# Altium integrated library Analog Devices Data Converters Analog-to-Digital Converters.IntLib: 2404 symbols (part 17 of 346)
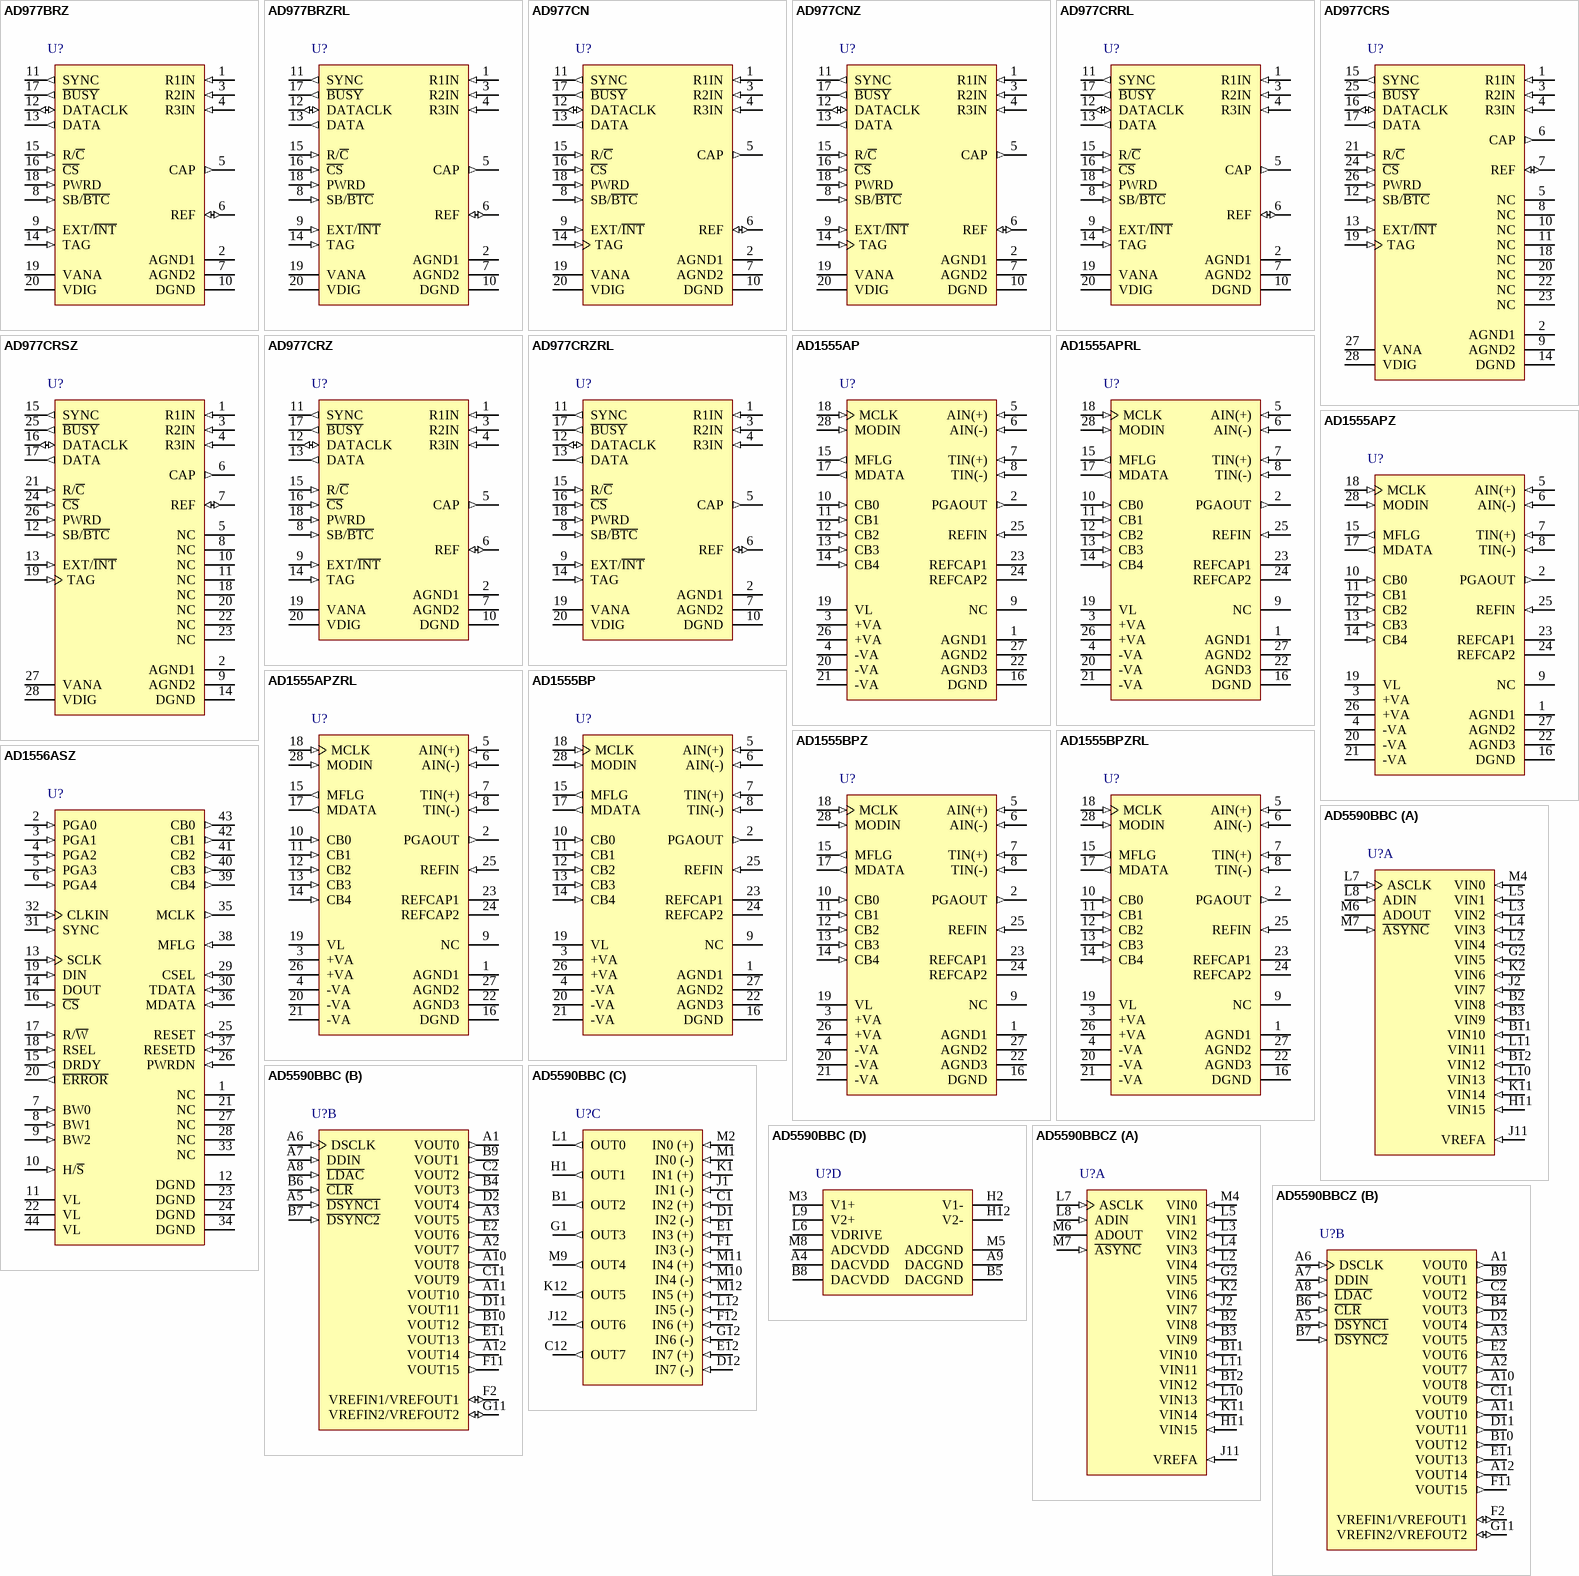
[diagram p164: symbols AD977BRZ to AD5590BBCZ]

## AD977CN
designator U?
Single 16-Bit BiCMOS Analog-to-Digital Converter with Serial Interface, 100KSPS, -40 to +85 degC, N-20, Tube; Generic Part Number: AD977; Manufacturer: Analog Devices; PartNumber: AD977CN; Resolution (Bits): 16; Channels: 1; Throughput Rate (SPS): 100K; Interface: Ser; DatasheetVersion: Rev.D; PackageVersion: 070706-A; PackageReference: N-20; PackageDescription: 20-Lead Plastic Dual In-Line Package [PDIP] Narrow Body; Supplier 1: Digi-Key; Supplier Part Number 1: AD977CN-ND; RoHS: N; Packing: Tube; Mounting Technology: Through-hole; Code_JEDEC: MS-001; ComponentLink1Description: Manufacturer URL; ComponentLink1URL: http://www.analog.com/en/index.html; ComponentLink2Description: Datasheet; ComponentLink2URL: http://www.analog.com/static/imported-files/data_sheets/AD977_977A.pdf; ComponentLink3Description: Package Specification; ComponentLink3URL: http://www.analog.com/static/imported-files/packages/50601349676519N_20.pdf; ComponentLink4Description: Product URL; ComponentLink4URL: http://www.analog.com/en/analog-to-digital-converters/ad-converters/ad977/products/product.html
footprint N-20 (DIP, 20-Leads, Row Spacing 7.62mm, Pitch 2.54mm, Body 25.9x6.6mm)
pins: 1 R1IN (in) "Analog Input. Refer to Table I, Table II for input range configuration.", 2 AGND1 (power) "Analog Ground. Used as the ground reference point for the REF pin.", 3 R2IN (in) "Analog Input. Refer to Table I, Table II for input range configuration.", 4 R3IN (in) "Analog Input. Refer to Table I, Table II for input range configuration.", 5 CAP (out) "Reference buffer output. Connect a 2.2 uF tantalum capacitor between CAP and Analog Ground.", 6 REF (io) "Reference Input/Output. The internal 2.5 V reference is available at this pin.Alternatively an external reference can be used to override the internal reference. In either case, connect a 2.2 uF tantalum capacitor between (See Datasheet)", 7 AGND2 (power) "Analog Ground.", 8 SB/~{BTC} (in) "This digital input is used to select the data format of a conversion result. With SB/B\T\C\ tied LOW, conversion data will be output in Binary Two’s Complement format. With SB/B\T\C\ connected to a logic HIGH, data is output (See Datasheet)", 9 EXT/~{INT} (in) "Digital select input for choosing the internal or an external data clock. With EXT/I\N\T\ tied LOW, after initiating a conversion, 16 DATACLK pulses transmit the previous conversion result as shown in Figure 3. With (See Datasheet)", 10 DGND (power) "Digital Ground.", 11 SYNC (out) "Digital output frame synchronization for use with an external data clock(EXT/INT = Logic HIGH). When a read sequence is initiated, a pulse one DATACLK period wide is output synchronous to the external data clock.", 12 DATACLK (io) "Serial data clock input or output, dependent upon the logic state of the EXT/I\N\T\ pin. When using the internal data clock (EXT/I\N\T\ = Logic LOW), a conversion start sequence will initiate transmission of 16 DATACLK (See Datasheet)", 13 DATA (out) "The serial data output is synchronized to DATACLK. Conversion results are stored in an on-chip register. The AD977 provides the conversion result, MSB first, from its internal shift register. The DATA format is determined by (See Datasheet)", 14 TAG (in) "This digital input can be used with an external data clock, (EXT/I\N\T\ = Logic HIGH) to daisy chain the conversion results from two or more AD977s onto a single DATA line. The digital data level on TAG is output on DATA (See Datasheet)", 15 R/~{C} (in) "Read/Convert Input. Is used to control the conversion and read modes of the AD977. With C\S\ LOW; a falling edge on R/C\ holds the analog input signal internally and starts a conversion, a rising edge enables the (See Datasheet)", 16 ~{CS} (in) "Chip Select Input. With R/C\ LOW, a falling edge on C\S\ will initiate a conversion.With R/C\ HIGH, a falling edge on C\S\ will enable the serial data output sequence.", 17 ~{BUSY} (out) "Busy Output. Goes LOW when a conversion is started, and remains LOW until the conversion is completed and the data is latched into the on-chip shift register.", 18 PWRD (in) "Power-Down Input. When set to a logic HIGH power consumption is reduced and conversions are inhibited. The conversion result from the previous conversion is stored in the onboard shift register.", 19 VANA (power) "Analog Power Supply. Nominally 5 V.", 20 VDIG (power) "Digital Power Supply. Nominally 5 V."

## AD977CNZ
designator U?
Single 16-Bit BiCMOS Analog-to-Digital Converter with Serial Interface, 100KSPS, -40 to +85 degC, N-20, Pb-Free, Tube; Generic Part Number: AD977; Manufacturer: Analog Devices; PartNumber: AD977CNZ; Resolution (Bits): 16; Channels: 1; Throughput Rate (SPS): 100K; Interface: Ser; DatasheetVersion: Rev.D; PackageVersion: 070706-A; PackageReference: N-20; PackageDescription: 20-Lead Plastic Dual In-Line Package [PDIP] Narrow Body; Supplier 1: Digi-Key; Supplier Part Number 1: AD977CNZ-ND; Supplier 2: Newark; Supplier Part Number 2: 15P1070; Supplier 3: Mouser; Supplier Part Number 3: 584-AD977CNZ; RoHS: Y; Packing: Tube; Mounting Technology: Through-hole; Code_JEDEC: MS-001; ComponentLink1Description: Manufacturer URL; ComponentLink1URL: http://www.analog.com/en/index.html; ComponentLink2Description: Datasheet; ComponentLink2URL: http://www.analog.com/static/imported-files/data_sheets/AD977_977A.pdf; ComponentLink3Description: Package Specification; ComponentLink3URL: http://www.analog.com/static/imported-files/packages/50601349676519N_20.pdf; ComponentLink4Description: Product URL; ComponentLink4URL: http://www.analog.com/en/analog-to-digital-converters/ad-converters/ad977/products/product.html
footprint N-20 (DIP, 20-Leads, Row Spacing 7.62mm, Pitch 2.54mm, Body 25.9x6.6mm)
pins: 1 R1IN (in) "Analog Input. Refer to Table I, Table II for input range configuration.", 2 AGND1 (power) "Analog Ground. Used as the ground reference point for the REF pin.", 3 R2IN (in) "Analog Input. Refer to Table I, Table II for input range configuration.", 4 R3IN (in) "Analog Input. Refer to Table I, Table II for input range configuration.", 5 CAP (out) "Reference buffer output. Connect a 2.2 uF tantalum capacitor between CAP and Analog Ground.", 6 REF (io) "Reference Input/Output. The internal 2.5 V reference is available at this pin.Alternatively an external reference can be used to override the internal reference. In either case, connect a 2.2 uF tantalum capacitor between (See Datasheet)", 7 AGND2 (power) "Analog Ground.", 8 SB/~{BTC} (in) "This digital input is used to select the data format of a conversion result. With SB/B\T\C\ tied LOW, conversion data will be output in Binary Two’s Complement format. With SB/B\T\C\ connected to a logic HIGH, data is output (See Datasheet)", 9 EXT/~{INT} (in) "Digital select input for choosing the internal or an external data clock. With EXT/I\N\T\ tied LOW, after initiating a conversion, 16 DATACLK pulses transmit the previous conversion result as shown in Figure 3. With (See Datasheet)", 10 DGND (power) "Digital Ground.", 11 SYNC (out) "Digital output frame synchronization for use with an external data clock(EXT/INT = Logic HIGH). When a read sequence is initiated, a pulse one DATACLK period wide is output synchronous to the external data clock.", 12 DATACLK (io) "Serial data clock input or output, dependent upon the logic state of the EXT/I\N\T\ pin. When using the internal data clock (EXT/I\N\T\ = Logic LOW), a conversion start sequence will initiate transmission of 16 DATACLK (See Datasheet)", 13 DATA (out) "The serial data output is synchronized to DATACLK. Conversion results are stored in an on-chip register. The AD977 provides the conversion result, MSB first, from its internal shift register. The DATA format is determined by (See Datasheet)", 14 TAG (in) "This digital input can be used with an external data clock, (EXT/I\N\T\ = Logic HIGH) to daisy chain the conversion results from two or more AD977s onto a single DATA line. The digital data level on TAG is output on DATA (See Datasheet)", 15 R/~{C} (in) "Read/Convert Input. Is used to control the conversion and read modes of the AD977. With C\S\ LOW; a falling edge on R/C\ holds the analog input signal internally and starts a conversion, a rising edge enables the (See Datasheet)", 16 ~{CS} (in) "Chip Select Input. With R/C\ LOW, a falling edge on C\S\ will initiate a conversion.With R/C\ HIGH, a falling edge on C\S\ will enable the serial data output sequence.", 17 ~{BUSY} (out) "Busy Output. Goes LOW when a conversion is started, and remains LOW until the conversion is completed and the data is latched into the on-chip shift register.", 18 PWRD (in) "Power-Down Input. When set to a logic HIGH power consumption is reduced and conversions are inhibited. The conversion result from the previous conversion is stored in the onboard shift register.", 19 VANA (power) "Analog Power Supply. Nominally 5 V.", 20 VDIG (power) "Digital Power Supply. Nominally 5 V."

## AD977CRRL
designator U?
Single 16-Bit BiCMOS Analog-to-Digital Converter with Serial Interface, 100KSPS, -40 to +85 degC, RW-20, Reel; Generic Part Number: AD977; Manufacturer: Analog Devices; PartNumber: AD977CRRL; Resolution (Bits): 16; Channels: 1; Throughput Rate (SPS): 100K; Interface: Ser; DatasheetVersion: Rev.D; PackageVersion: 060706-A; PackageReference: RW-20; PackageDescription: 20-Lead Standard Small Outline Package [SOIC_W] Wide Body; Supplier 1: Digi-Key; Supplier Part Number 1: AD977CRRLTR-ND; Supplier 2: Digi-Key; Supplier Part Number 2: AD977CRRLCT-ND; Supplier 3: Digi-Key; Supplier Part Number 3: AD977CRRLDKR-ND; Supplier 4: Mouser; Supplier Part Number 4: 584-AD977CRR; RoHS: N; Packing: Reel; Mounting Technology: Surface Mount; Code_JEDEC: MS-013-AC; ComponentLink1Description: Manufacturer URL; ComponentLink1URL: http://www.analog.com/en/index.html; ComponentLink2Description: Datasheet; ComponentLink2URL: http://www.analog.com/static/imported-files/data_sheets/AD977_977A.pdf; ComponentLink3Description: Package Specification; ComponentLink3URL: http://www.analog.com/static/imported-files/packages/233848RW_20.pdf; ComponentLink4Description: Product URL; ComponentLink4URL: http://www.analog.com/en/analog-to-digital-converters/ad-converters/ad977/products/product.html
footprint RW-20_N (SOIC, 20-Leads, Body 12.8x7.5mm, Pitch 1.27mm, IPC Medium Density)
footprint RW-20_L (SOIC, 20-Leads, Body 12.8x7.5mm, Pitch 1.27mm, IPC High Density)
footprint RW-20_M (SOIC, 20-Leads, Body 12.8x7.5mm, Pitch 1.27mm, IPC Low Density)
pins: 1 R1IN (in) "Analog Input. Refer to Table I, Table II for input range configuration.", 2 AGND1 (power) "Analog Ground. Used as the ground reference point for the REF pin.", 3 R2IN (in) "Analog Input. Refer to Table I, Table II for input range configuration.", 4 R3IN (in) "Analog Input. Refer to Table I, Table II for input range configuration.", 5 CAP (out) "Reference buffer output. Connect a 2.2 µF tantalum capacitor between CAP and Analog Ground.", 6 REF (io) "Reference Input/Output. The internal 2.5 V reference is available at this pin. Alternatively an external reference can be used to override the internal reference. In either case, connect a 2.2 µF tantalum capacitor between (See Datasheet)", 7 AGND2 (power) "Analog Ground.", 8 SB/~{BTC} (in) "This digital input is used to select the data format of a conversion result. With SB/B\T\C\ tied LOW, conversion data will be output in Binary Two’s Complement format. With SB/B\T\C\ connected to a logic HIGH, data is output (See Datasheet)", 9 EXT/~{INT} (in) "Digital select input for choosing the internal or an external data clock. With EXT/I\N\T\ tied LOW, after initiating a conversion, 16 DATACLK pulses transmit the previous conversion result as shown in Figure 3. With (See Datasheet)", 10 DGND (power) "Digital Ground.", 11 SYNC (out) "Digital output frame synchronization for use with an external data clock (EXT/I\N\T\ = Logic HIGH). When a read sequence is initiated, a pulse one DATACLK period wide is output synchronous to the external data clock.", 12 DATACLK (io) "Serial data clock input or output, dependent upon the logic state of the EXT/I\N\T\ pin. When using the internal data clock (EXT/I\N\T\ = Logic LOW), a conversion start sequence will initiate transmission of 16 DATACLK (See Datasheet)", 13 DATA (out) "The serial data output is synchronized to DATACLK. Conversion results are stored in an on-chip register. The AD977 provides the conversion result, MSB first, from its internal shift register. The DATA format is determined by (See Datasheet)", 14 TAG (in) "This digital input can be used with an external data clock, (EXT/I\N\T\ = Logic HIGH) to daisy chain the conversion results from two or more AD977s onto a single DATA line. The digital data level on TAG is output on DATA (See Datasheet)", 15 R/~{C} (in) "Read/Convert Input. Is used to control the conversion and read modes of the AD977. With C\S\ LOW; a falling edge on R/C\ holds the analog input signal internally and starts a conversion, a rising edge enables the (See Datasheet)", 16 ~{CS} (in) "Chip Select Input. With R/C\ LOW, a falling edge on C\S\ will initiate a conversion. With R/C\ HIGH, a falling edge on C\S\ will enable the serial data output sequence.", 17 ~{BUSY} (out) "Busy Output. Goes LOW when a conversion is started, and remains LOW until the conversion is completed and the data is latched into the on-chip shift register.", 18 PWRD (in) "Power-Down Input. When set to a logic HIGH power consumption is reduced and conversions are inhibited. The conversion result from the previous conversion is stored in the onboard shift register.", 19 VANA (power) "Analog Power Supply. Nominally 5 V.", 20 VDIG (power) "Digital Power Supply. Nominally 5 V."

## AD977CRS
designator U?
Single 16-Bit BiCMOS Analog-to-Digital Converter with Serial Interface, 100KSPS, -40 to +85 degC, RS-28, Tube; Generic Part Number: AD977; Manufacturer: Analog Devices; PartNumber: AD977CRS; Resolution (Bits): 16; Channels: 1; Throughput Rate (SPS): 100K; Interface: Ser; DatasheetVersion: Rev.D; PackageVersion: 060106-A; PackageReference: RS-28; PackageDescription: 28-Lead Shrink Small Outline Package [SSOP]; Supplier 1: Digi-Key; Supplier Part Number 1: AD977CRS-ND; RoHS: N; Packing: Tube; Mounting Technology: Surface Mount; Code_JEDEC: MO-150-AH; ComponentLink1Description: Manufacturer URL; ComponentLink1URL: http://www.analog.com/en/index.html; ComponentLink2Description: Datasheet; ComponentLink2URL: http://www.analog.com/static/imported-files/data_sheets/AD977_977A.pdf; ComponentLink3Description: Package Specification; ComponentLink3URL: http://www.analog.com/static/imported-files/packages/32122249223724RS_28.pdf; ComponentLink4Description: Product URL; ComponentLink4URL: http://www.analog.com/en/analog-to-digital-converters/ad-converters/ad977/products/product.html
footprint RS-28_N (SOP, 28-Leads, Body 10.2x5.3mm, Pitch 0.65mm, IPC Medium Density)
footprint RS-28_L (SOP, 28-Leads, Body 10.2x5.3mm, Pitch 0.65mm, IPC High Density)
footprint RS-28_M (SOP, 28-Leads, Body 10.2x5.3mm, Pitch 0.65mm, IPC Low Density)
pins: 1 R1IN (in) "Analog Input. Refer to Table I, Table II for input range configuration.", 2 AGND1 (power) "Analog Ground. Used as the ground reference point for the REF pin.", 3 R2IN (in) "Analog Input. Refer to Table I, Table II for input range configuration.", 4 R3IN (in) "Analog Input. Refer to Table I, Table II for input range configuration.", 5 NC "No Connection", 6 CAP (out) "Reference buffer output. Connect a 2.2 uF tantalum capacitor between CAP and Analog Ground.", 7 REF (io) "Reference Input/Output. The internal 2.5 V reference is available at this pin. Alternatively an external reference can be used to override the internal reference. In either case, connect a 2.2 uF tantalum capacitor between (See Datasheet)", 8 NC "No Connection", 9 AGND2 (power) "Analog Ground.", 10 NC "No Connection", 11 NC "No Connection", 12 SB/~{BTC} (in) "This digital input is used to select the data format of a conversion result. With SB/B\T\C\ tied LOW, conversion data will be output in Binary Two's Complement format. With SB/B\T\C\ connected to a logic HIGH, data is output (See Datasheet)", 13 EXT/~{INT} (in) "Digital select input for choosing the internal or an external data clock. With EXT/I\N\T\ tied LOW, after initiating a conversion, 16 DATACLK pulses transmit the previous conversion result as shown in Figure 3. With (See Datasheet)", 14 DGND (power) "Digital Ground.", 15 SYNC (out) "Digital output frame synchronization for use with an external data clock (EXT/I\N\T\ = Logic HIGH). When a read sequence is initiated, a pulse one DATACLK period wide is output synchronous to the external data clock.", 16 DATACLK (io) "Serial data clock input or output, dependent upon the logic state of the EXT/I\N\T\ pin. When using the internal data clock (EXT/I\N\T\ = Logic LOW), a conversion start sequence will initiate transmission of 16 DATACLK (See Datasheet)", 17 DATA (out) "The serial data output is synchronized to DATACLK. Conversion results are stored in an on-chip register. The AD977 provides the conversion result, MSB first, from its internal shift register. The DATA format is determined by (See Datasheet)", 18 NC "No Connection", 19 TAG (in) "This digital input can be used with an external data clock, (EXT/I\N\T\ = Logic HIGH) to daisy chain the conversion results from two or more AD977s onto a single DATA line. The digital data level on TAG is output on DATA (See Datasheet)", 20 NC "No Connection", 21 R/~{C} (in) "Read/Convert Input. Is used to control the conversion and read modes of the AD977. With C\S\ LOW; a falling edge on R/C\ holds the analog input signal internally and starts a conversion, a rising edge enables the (See Datasheet)", 22 NC "No Connection", 23 NC "No Connection", 24 ~{CS} (in) "Chip Select Input. With R/C\ LOW, a falling edge on C\S\ will initiate a conversion. With R/C\ HIGH, a falling edge on C\S\ will enable the serial data output sequence.", 25 ~{BUSY} (out) "Busy Output. Goes LOW when a conversion is started, and remains LOW until the conversion is completed and the data is latched into the on-chip shift register.", 26 PWRD (in) "Power-Down Input. When set to a logic HIGH power consumption is reduced and conversions are inhibited. The conversion result from the previous conversion is stored in the onboard shift register.", 27 VANA (power) "Analog Power Supply. Nominally 5 V.", 28 VDIG (power) "Digital Power Supply. Nominally 5 V."

## AD977CRSZ
designator U?
Single 16-Bit BiCMOS Analog-to-Digital Converter with Serial Interface, 100KSPS, -40 to +85 degC, RS-28, Pb-Free, Tube; Generic Part Number: AD977; Manufacturer: Analog Devices; PartNumber: AD977CRSZ; Resolution (Bits): 16; Channels: 1; Throughput Rate (SPS): 100K; Interface: Ser; DatasheetVersion: Rev.D; PackageVersion: 060106-A; PackageReference: RS-28; PackageDescription: 28-Lead Shrink Small Outline Package [SSOP]; Supplier 1: Digi-Key; Supplier Part Number 1: AD977CRSZ-ND; Supplier 2: Newark; Supplier Part Number 2: 59K7426; Supplier 3: Mouser; Supplier Part Number 3: 584-AD977CRSZ; RoHS: Y; Packing: Tube; Mounting Technology: Surface Mount; Code_JEDEC: MO-150-AH; ComponentLink1Description: Manufacturer URL; ComponentLink1URL: http://www.analog.com/en/index.html; ComponentLink2Description: Datasheet; ComponentLink2URL: http://www.analog.com/static/imported-files/data_sheets/AD977_977A.pdf; ComponentLink3Description: Package Specification; ComponentLink3URL: http://www.analog.com/static/imported-files/packages/32122249223724RS_28.pdf; ComponentLink4Description: Product URL; ComponentLink4URL: http://www.analog.com/en/analog-to-digital-converters/ad-converters/ad977/products/product.html
footprint RS-28_N (SOP, 28-Leads, Body 10.2x5.3mm, Pitch 0.65mm, IPC Medium Density)
footprint RS-28_L (SOP, 28-Leads, Body 10.2x5.3mm, Pitch 0.65mm, IPC High Density)
footprint RS-28_M (SOP, 28-Leads, Body 10.2x5.3mm, Pitch 0.65mm, IPC Low Density)
pins: 1 R1IN (in) "Analog Input. Refer to Table I, Table II for input range configuration.", 2 AGND1 (power) "Analog Ground. Used as the ground reference point for the REF pin.", 3 R2IN (in) "Analog Input. Refer to Table I, Table II for input range configuration.", 4 R3IN (in) "Analog Input. Refer to Table I, Table II for input range configuration.", 5 NC "No Connection", 6 CAP (out) "Reference buffer output. Connect a 2.2 uF tantalum capacitor between CAP and Analog Ground.", 7 REF (io) "Reference Input/Output. The internal 2.5 V reference is available at this pin. Alternatively an external reference can be used to override the internal reference. In either case, connect a 2.2 uF tantalum capacitor between (See Datasheet)", 8 NC "No Connection", 9 AGND2 (power) "Analog Ground.", 10 NC "No Connection", 11 NC "No Connection", 12 SB/~{BTC} (in) "This digital input is used to select the data format of a conversion result. With SB/B\T\C\ tied LOW, conversion data will be output in Binary Two's Complement format. With SB/B\T\C\ connected to a logic HIGH, data is output (See Datasheet)", 13 EXT/~{INT} (in) "Digital select input for choosing the internal or an external data clock. With EXT/I\N\T\ tied LOW, after initiating a conversion, 16 DATACLK pulses transmit the previous conversion result as shown in Figure 3. With (See Datasheet)", 14 DGND (power) "Digital Ground.", 15 SYNC (out) "Digital output frame synchronization for use with an external data clock (EXT/I\N\T\ = Logic HIGH). When a read sequence is initiated, a pulse one DATACLK period wide is output synchronous to the external data clock.", 16 DATACLK (io) "Serial data clock input or output, dependent upon the logic state of the EXT/I\N\T\ pin. When using the internal data clock (EXT/I\N\T\ = Logic LOW), a conversion start sequence will initiate transmission of 16 DATACLK (See Datasheet)", 17 DATA (out) "The serial data output is synchronized to DATACLK. Conversion results are stored in an on-chip register. The AD977 provides the conversion result, MSB first, from its internal shift register. The DATA format is determined by (See Datasheet)", 18 NC "No Connection", 19 TAG (in) "This digital input can be used with an external data clock, (EXT/I\N\T\ = Logic HIGH) to daisy chain the conversion results from two or more AD977s onto a single DATA line. The digital data level on TAG is output on DATA (See Datasheet)", 20 NC "No Connection", 21 R/~{C} (in) "Read/Convert Input. Is used to control the conversion and read modes of the AD977. With C\S\ LOW; a falling edge on R/C\ holds the analog input signal internally and starts a conversion, a rising edge enables the (See Datasheet)", 22 NC "No Connection", 23 NC "No Connection", 24 ~{CS} (in) "Chip Select Input. With R/C\ LOW, a falling edge on C\S\ will initiate a conversion. With R/C\ HIGH, a falling edge on C\S\ will enable the serial data output sequence.", 25 ~{BUSY} (out) "Busy Output. Goes LOW when a conversion is started, and remains LOW until the conversion is completed and the data is latched into the on-chip shift register.", 26 PWRD (in) "Power-Down Input. When set to a logic HIGH power consumption is reduced and conversions are inhibited. The conversion result from the previous conversion is stored in the onboard shift register.", 27 VANA (power) "Analog Power Supply. Nominally 5 V.", 28 VDIG (power) "Digital Power Supply. Nominally 5 V."

## AD977CRZ
designator U?
Single 16-Bit BiCMOS Analog-to-Digital Converter with Serial Interface, 100KSPS, -40 to +85 degC, RW-20, Pb-Free, Tube; Generic Part Number: AD977; Manufacturer: Analog Devices; PartNumber: AD977CRZ; Resolution (Bits): 16; Channels: 1; Throughput Rate (SPS): 100K; Interface: Ser; DatasheetVersion: Rev.D; PackageVersion: 060706-A; PackageReference: RW-20; PackageDescription: 20-Lead Standard Small Outline Package [SOIC_W] Wide Body; Supplier 1: Digi-Key; Supplier Part Number 1: AD977CRZ-ND; Supplier 2: Mouser; Supplier Part Number 2: 584-AD977CRZ; RoHS: Y; Packing: Tube; Mounting Technology: Surface Mount; Code_JEDEC: MS-013-AC; ComponentLink1Description: Manufacturer URL; ComponentLink1URL: http://www.analog.com/en/index.html; ComponentLink2Description: Datasheet; ComponentLink2URL: http://www.analog.com/static/imported-files/data_sheets/AD977_977A.pdf; ComponentLink3Description: Package Specification; ComponentLink3URL: http://www.analog.com/static/imported-files/packages/233848RW_20.pdf; ComponentLink4Description: Product URL; ComponentLink4URL: http://www.analog.com/en/analog-to-digital-converters/ad-converters/ad977/products/product.html
footprint RW-20_N (SOIC, 20-Leads, Body 12.8x7.5mm, Pitch 1.27mm, IPC Medium Density)
footprint RW-20_L (SOIC, 20-Leads, Body 12.8x7.5mm, Pitch 1.27mm, IPC High Density)
footprint RW-20_M (SOIC, 20-Leads, Body 12.8x7.5mm, Pitch 1.27mm, IPC Low Density)
pins: 1 R1IN (in) "Analog Input. Refer to Table I, Table II for input range configuration.", 2 AGND1 (power) "Analog Ground. Used as the ground reference point for the REF pin.", 3 R2IN (in) "Analog Input. Refer to Table I, Table II for input range configuration.", 4 R3IN (in) "Analog Input. Refer to Table I, Table II for input range configuration.", 5 CAP (out) "Reference buffer output. Connect a 2.2 µF tantalum capacitor between CAP and Analog Ground.", 6 REF (io) "Reference Input/Output. The internal 2.5 V reference is available at this pin. Alternatively an external reference can be used to override the internal reference. In either case, connect a 2.2 µF tantalum capacitor between (See Datasheet)", 7 AGND2 (power) "Analog Ground.", 8 SB/~{BTC} (in) "This digital input is used to select the data format of a conversion result. With SB/B\T\C\ tied LOW, conversion data will be output in Binary Two’s Complement format. With SB/B\T\C\ connected to a logic HIGH, data is output (See Datasheet)", 9 EXT/~{INT} (in) "Digital select input for choosing the internal or an external data clock. With EXT/I\N\T\ tied LOW, after initiating a conversion, 16 DATACLK pulses transmit the previous conversion result as shown in Figure 3. With (See Datasheet)", 10 DGND (power) "Digital Ground.", 11 SYNC (out) "Digital output frame synchronization for use with an external data clock (EXT/I\N\T\ = Logic HIGH). When a read sequence is initiated, a pulse one DATACLK period wide is output synchronous to the external data clock.", 12 DATACLK (io) "Serial data clock input or output, dependent upon the logic state of the EXT/I\N\T\ pin. When using the internal data clock (EXT/I\N\T\ = Logic LOW), a conversion start sequence will initiate transmission of 16 DATACLK (See Datasheet)", 13 DATA (out) "The serial data output is synchronized to DATACLK. Conversion results are stored in an on-chip register. The AD977 provides the conversion result, MSB first, from its internal shift register. The DATA format is determined by (See Datasheet)", 14 TAG (in) "This digital input can be used with an external data clock, (EXT/I\N\T\ = Logic HIGH) to daisy chain the conversion results from two or more AD977s onto a single DATA line. The digital data level on TAG is output on DATA (See Datasheet)", 15 R/~{C} (in) "Read/Convert Input. Is used to control the conversion and read modes of the AD977. With C\S\ LOW; a falling edge on R/C\ holds the analog input signal internally and starts a conversion, a rising edge enables the (See Datasheet)", 16 ~{CS} (in) "Chip Select Input. With R/C\ LOW, a falling edge on C\S\ will initiate a conversion. With R/C\ HIGH, a falling edge on C\S\ will enable the serial data output sequence.", 17 ~{BUSY} (out) "Busy Output. Goes LOW when a conversion is started, and remains LOW until the conversion is completed and the data is latched into the on-chip shift register.", 18 PWRD (in) "Power-Down Input. When set to a logic HIGH power consumption is reduced and conversions are inhibited. The conversion result from the previous conversion is stored in the onboard shift register.", 19 VANA (power) "Analog Power Supply. Nominally 5 V.", 20 VDIG (power) "Digital Power Supply. Nominally 5 V."

## AD977CRZRL
designator U?
Single 16-Bit BiCMOS Analog-to-Digital Converter with Serial Interface, 100KSPS, -40 to +85 degC, RW-20, Pb-Free, Reel; Generic Part Number: AD977; Manufacturer: Analog Devices; PartNumber: AD977CRZRL; Resolution (Bits): 16; Channels: 1; Throughput Rate (SPS): 100K; Interface: Ser; DatasheetVersion: Rev.D; PackageVersion: 060706-A; PackageReference: RW-20; PackageDescription: 20-Lead Standard Small Outline Package [SOIC_W] Wide Body; Supplier 1: Digi-Key; Supplier Part Number 1: AD977CRZRL-ND; Supplier 2: Mouser; Supplier Part Number 2: 584-AD977CRZR; RoHS: Y; Packing: Reel; Mounting Technology: Surface Mount; Code_JEDEC: MS-013-AC; ComponentLink1Description: Manufacturer URL; ComponentLink1URL: http://www.analog.com/en/index.html; ComponentLink2Description: Datasheet; ComponentLink2URL: http://www.analog.com/static/imported-files/data_sheets/AD977_977A.pdf; ComponentLink3Description: Package Specification; ComponentLink3URL: http://www.analog.com/static/imported-files/packages/233848RW_20.pdf; ComponentLink4Description: Product URL; ComponentLink4URL: http://www.analog.com/en/analog-to-digital-converters/ad-converters/ad977/products/product.html
footprint RW-20_N (SOIC, 20-Leads, Body 12.8x7.5mm, Pitch 1.27mm, IPC Medium Density)
footprint RW-20_L (SOIC, 20-Leads, Body 12.8x7.5mm, Pitch 1.27mm, IPC High Density)
footprint RW-20_M (SOIC, 20-Leads, Body 12.8x7.5mm, Pitch 1.27mm, IPC Low Density)
pins: 1 R1IN (in) "Analog Input. Refer to Table I, Table II for input range configuration.", 2 AGND1 (power) "Analog Ground. Used as the ground reference point for the REF pin.", 3 R2IN (in) "Analog Input. Refer to Table I, Table II for input range configuration.", 4 R3IN (in) "Analog Input. Refer to Table I, Table II for input range configuration.", 5 CAP (out) "Reference buffer output. Connect a 2.2 µF tantalum capacitor between CAP and Analog Ground.", 6 REF (io) "Reference Input/Output. The internal 2.5 V reference is available at this pin. Alternatively an external reference can be used to override the internal reference. In either case, connect a 2.2 µF tantalum capacitor between (See Datasheet)", 7 AGND2 (power) "Analog Ground.", 8 SB/~{BTC} (in) "This digital input is used to select the data format of a conversion result. With SB/B\T\C\ tied LOW, conversion data will be output in Binary Two’s Complement format. With SB/B\T\C\ connected to a logic HIGH, data is output (See Datasheet)", 9 EXT/~{INT} (in) "Digital select input for choosing the internal or an external data clock. With EXT/I\N\T\ tied LOW, after initiating a conversion, 16 DATACLK pulses transmit the previous conversion result as shown in Figure 3. With (See Datasheet)", 10 DGND (power) "Digital Ground.", 11 SYNC (out) "Digital output frame synchronization for use with an external data clock (EXT/I\N\T\ = Logic HIGH). When a read sequence is initiated, a pulse one DATACLK period wide is output synchronous to the external data clock.", 12 DATACLK (io) "Serial data clock input or output, dependent upon the logic state of the EXT/I\N\T\ pin. When using the internal data clock (EXT/I\N\T\ = Logic LOW), a conversion start sequence will initiate transmission of 16 DATACLK (See Datasheet)", 13 DATA (out) "The serial data output is synchronized to DATACLK. Conversion results are stored in an on-chip register. The AD977 provides the conversion result, MSB first, from its internal shift register. The DATA format is determined by (See Datasheet)", 14 TAG (in) "This digital input can be used with an external data clock, (EXT/I\N\T\ = Logic HIGH) to daisy chain the conversion results from two or more AD977s onto a single DATA line. The digital data level on TAG is output on DATA (See Datasheet)", 15 R/~{C} (in) "Read/Convert Input. Is used to control the conversion and read modes of the AD977. With C\S\ LOW; a falling edge on R/C\ holds the analog input signal internally and starts a conversion, a rising edge enables the (See Datasheet)", 16 ~{CS} (in) "Chip Select Input. With R/C\ LOW, a falling edge on C\S\ will initiate a conversion. With R/C\ HIGH, a falling edge on C\S\ will enable the serial data output sequence.", 17 ~{BUSY} (out) "Busy Output. Goes LOW when a conversion is started, and remains LOW until the conversion is completed and the data is latched into the on-chip shift register.", 18 PWRD (in) "Power-Down Input. When set to a logic HIGH power consumption is reduced and conversions are inhibited. The conversion result from the previous conversion is stored in the onboard shift register.", 19 VANA (power) "Analog Power Supply. Nominally 5 V.", 20 VDIG (power) "Digital Power Supply. Nominally 5 V."

## AD1555AP
designator U?
Dual 24-Bit Low Noise Sigma-Delta Analog-to-Digital Converter with Byte, Serial Interface and Low Noise PGA, 16KSPS, 0 to 85 degC, P-28, Tube; Generic Part Number: AD1555; Manufacturer: Analog Devices; PartNumber: AD1555AP; Resolution (Bits): 24; Channels: 2; Throughput Rate (SPS): 16K; DatasheetVersion: Rev.B; PackageVersion: 042508-A; PackageReference: P-28; PackageDescription: 28-Lead Plastic Leaded Chip Carrier [PLCC]; Supplier 1: Digi-Key; Supplier Part Number 1: AD1555AP-ND; Supplier 2: Mouser; Supplier Part Number 2: 584-AD1555AP; Interface: Byte, Ser; RoHS: N; Packing: Tube; Mounting Technology: Surface Mount; Code_JEDEC: MO-047-AB; ComponentLink1Description: Manufacturer URL; ComponentLink1URL: http://www.analog.com/en/index.html; ComponentLink2Description: Datasheet; ComponentLink2URL: http://www.analog.com/static/imported-files/data_sheets/AD1555_1556.pdf; ComponentLink3Description: Package Specification; ComponentLink3URL: http://www.analog.com/static/imported-files/packages/PKG_PDF/PLCC(P)/P_28.pdf; ComponentLink4Description: Product URL; ComponentLink4URL: http://www.analog.com/en/analog-to-digital-converters/ad-converters/ad1555/products/product.html
footprint P-28_N (Leaded Chip Carrier, 28-Leads, Body 11.5x11.5mm, Pitch 1.27mm, IPC Medium Density)
footprint P-28_L (Leaded Chip Carrier, 28-Leads, Body 11.5x11.5mm, Pitch 1.27mm, IPC High Density)
footprint P-28_M (Leaded Chip Carrier, 28-Leads, Body 11.5x11.5mm, Pitch 1.27mm, IPC Low Density)
pins: 1 AGND1 (power) "Analog Ground", 2 PGAOUT (out) "Programmable Gain Amplifier Output. The output of the on-chip programmable gain amplifier is available at this pin. Refer to Table III for PGA gain settings selection.", 3 +VA (power) "Positive Analog Supply Voltage. +5 V nominal.", 4 -VA (power) "Negative Analog Supply Voltage. -5 V nominal.", 5 AIN(+) (in) "Mux Input. Noninverting signal to the PGA mux input. Refer to Table III for input selection.", 6 AIN(-) (in) "Mux Input. Inverting signal to the PGA mux input. Refer to Table III for input selection.", 7 TIN(+) (in) "Mux Input. Noninverting test signal to the PGA mux input. Refer to Table III for input selection.", 8 TIN(-) (in) "Mux Input. Inverting test signal to the PGA mux input. Refer to Table III for input selection.", 9 NC "Pin for Factory Use Only. This pin must be kept not connected for normal operation.", 10 CB0 (in) "Modulator Control. These input pins control the mux selection, the PGA gain settings, and the standby modes of the AD1555. When used with the AD1556, these pins are generally directly tied to the CB0-CB4 output pins of the (See Datasheet)", 11 CB1 (in) "Modulator Control. These input pins control the mux selection, the PGA gain settings, and the standby modes of the AD1555. When used with the AD1556, these pins are generally directly tied to the CB0-CB4 output pins of the (See Datasheet)", 12 CB2 (in) "Modulator Control. These input pins control the mux selection, the PGA gain settings, and the standby modes of the AD1555. When used with the AD1556, these pins are generally directly tied to the CB0-CB4 output pins of the (See Datasheet)", 13 CB3 (in) "Modulator Control. These input pins control the mux selection, the PGA gain settings, and the standby modes of the AD1555. When used with the AD1556, these pins are generally directly tied to the CB0-CB4 output pins of the (See Datasheet)", 14 CB4 (in) "Modulator Control. These input pins control the mux selection, the PGA gain settings, and the standby modes of the AD1555. When used with the AD1556, these pins are generally directly tied to the CB0-CB4 output pins of the (See Datasheet)", 15 MFLG (out) "Modulator Error. Digital output that is pulsed high if an overrange condition occurs in the modulator.", 16 DGND (power) "Digital Ground", 17 MDATA (out) "Modulator Output. The bitstream generated by the modulator is output in a return-to-zero data format. The data is valid for approximately one-half a MCLK cycle. Refer to Figure 3.", 18 MCLK (in) "Clock Input. The clock input signal, nominally 256 kHz, provides the necessary clock for the sigma-? modulator. When this input is static, AD1555 is in the power-down mode.", 19 VL (power) "Positive Digital Supply Voltage. 5 V Nominal.", 20 -VA (power) "Negative Analog Supply Voltage. -5 V nominal.", 21 -VA (power) "Negative Analog Supply Voltage. -5 V nominal.", 22 AGND3 (power) "Analog Ground. Used as the ground reference for the REFIN pin.", 23 REFCAP1 "DAC Reference Filter. The reference input is internally divided and available at this pin to provide the reference for the sigma delta-delta modulator. Connect an external 22 µF (5 V min) tantalum capacitor from REFCAP1 to (See Datasheet)", 24 REFCAP2 "Reference Filter. The reference input is internally divided and available at this pin.", 25 REFIN (in) "Reference Input. This input accepts a 3 V level that is internally divided to provide the reference for the sigma-? modulator.", 26 +VA (power) "Positive Analog Supply Voltage. +5 V nominal.", 27 AGND2 (power) "Analog Ground.", 28 MODIN (in) "Modulator Input. Analog input to the modulator. Normally, this input is directly tied to PGAOUT output."

## AD1555APRL
designator U?
Dual 24-Bit Low Noise Sigma-Delta Analog-to-Digital Converter with Byte, Serial Interface and Low Noise PGA, 16KSPS, 0 to 85 degC, P-28, Reel; Generic Part Number: AD1555; Manufacturer: Analog Devices; PartNumber: AD1555APRL; Resolution (Bits): 24; Channels: 2; Throughput Rate (SPS): 16K; DatasheetVersion: Rev.B; PackageVersion: 042508-A; PackageReference: P-28; PackageDescription: 28-Lead Plastic Leaded Chip Carrier [PLCC]; Supplier 1: Digi-Key; Supplier Part Number 1: AD1555APRLTR-ND; Supplier 2: Digi-Key; Supplier Part Number 2: AD1555APRLCT-ND; Supplier 3: Digi-Key; Supplier Part Number 3: AD1555APRLDKR-ND; Supplier 4: Mouser; Supplier Part Number 4: 584-AD1555APR; Interface: Byte, Ser; RoHS: N; Packing: Reel; Mounting Technology: Surface Mount; Code_JEDEC: MO-047-AB; ComponentLink1Description: Manufacturer URL; ComponentLink1URL: http://www.analog.com/en/index.html; ComponentLink2Description: Datasheet; ComponentLink2URL: http://www.analog.com/static/imported-files/data_sheets/AD1555_1556.pdf; ComponentLink3Description: Package Specification; ComponentLink3URL: http://www.analog.com/static/imported-files/packages/PKG_PDF/PLCC(P)/P_28.pdf; ComponentLink4Description: Product URL; ComponentLink4URL: http://www.analog.com/en/analog-to-digital-converters/ad-converters/ad1555/products/product.html
footprint P-28_N (Leaded Chip Carrier, 28-Leads, Body 11.5x11.5mm, Pitch 1.27mm, IPC Medium Density)
footprint P-28_L (Leaded Chip Carrier, 28-Leads, Body 11.5x11.5mm, Pitch 1.27mm, IPC High Density)
footprint P-28_M (Leaded Chip Carrier, 28-Leads, Body 11.5x11.5mm, Pitch 1.27mm, IPC Low Density)
pins: 1 AGND1 (power) "Analog Ground", 2 PGAOUT (out) "Programmable Gain Amplifier Output. The output of the on-chip programmable gain amplifier is available at this pin. Refer to Table III for PGA gain settings selection.", 3 +VA (power) "Positive Analog Supply Voltage. +5 V nominal.", 4 -VA (power) "Negative Analog Supply Voltage. -5 V nominal.", 5 AIN(+) (in) "Mux Input. Noninverting signal to the PGA mux input. Refer to Table III for input selection.", 6 AIN(-) (in) "Mux Input. Inverting signal to the PGA mux input. Refer to Table III for input selection.", 7 TIN(+) (in) "Mux Input. Noninverting test signal to the PGA mux input. Refer to Table III for input selection.", 8 TIN(-) (in) "Mux Input. Inverting test signal to the PGA mux input. Refer to Table III for input selection.", 9 NC "Pin for Factory Use Only. This pin must be kept not connected for normal operation.", 10 CB0 (in) "Modulator Control. These input pins control the mux selection, the PGA gain settings, and the standby modes of the AD1555. When used with the AD1556, these pins are generally directly tied to the CB0-CB4 output pins of the (See Datasheet)", 11 CB1 (in) "Modulator Control. These input pins control the mux selection, the PGA gain settings, and the standby modes of the AD1555. When used with the AD1556, these pins are generally directly tied to the CB0-CB4 output pins of the (See Datasheet)", 12 CB2 (in) "Modulator Control. These input pins control the mux selection, the PGA gain settings, and the standby modes of the AD1555. When used with the AD1556, these pins are generally directly tied to the CB0-CB4 output pins of the (See Datasheet)", 13 CB3 (in) "Modulator Control. These input pins control the mux selection, the PGA gain settings, and the standby modes of the AD1555. When used with the AD1556, these pins are generally directly tied to the CB0-CB4 output pins of the (See Datasheet)", 14 CB4 (in) "Modulator Control. These input pins control the mux selection, the PGA gain settings, and the standby modes of the AD1555. When used with the AD1556, these pins are generally directly tied to the CB0-CB4 output pins of the (See Datasheet)", 15 MFLG (out) "Modulator Error. Digital output that is pulsed high if an overrange condition occurs in the modulator.", 16 DGND (power) "Digital Ground", 17 MDATA (out) "Modulator Output. The bitstream generated by the modulator is output in a return-to-zero data format. The data is valid for approximately one-half a MCLK cycle. Refer to Figure 3.", 18 MCLK (in) "Clock Input. The clock input signal, nominally 256 kHz, provides the necessary clock for the sigma-? modulator. When this input is static, AD1555 is in the power-down mode.", 19 VL (power) "Positive Digital Supply Voltage. 5 V Nominal.", 20 -VA (power) "Negative Analog Supply Voltage. -5 V nominal.", 21 -VA (power) "Negative Analog Supply Voltage. -5 V nominal.", 22 AGND3 (power) "Analog Ground. Used as the ground reference for the REFIN pin.", 23 REFCAP1 "DAC Reference Filter. The reference input is internally divided and available at this pin to provide the reference for the sigma delta-delta modulator. Connect an external 22 µF (5 V min) tantalum capacitor from REFCAP1 to (See Datasheet)", 24 REFCAP2 "Reference Filter. The reference input is internally divided and available at this pin.", 25 REFIN (in) "Reference Input. This input accepts a 3 V level that is internally divided to provide the reference for the sigma-? modulator.", 26 +VA (power) "Positive Analog Supply Voltage. +5 V nominal.", 27 AGND2 (power) "Analog Ground.", 28 MODIN (in) "Modulator Input. Analog input to the modulator. Normally, this input is directly tied to PGAOUT output."

## AD1555APZ
designator U?
Dual 24-Bit Low Noise Sigma-Delta Analog-to-Digital Converter with Byte, Serial Interface and Low Noise PGA, 16KSPS, 0 to 85 degC, P-28, Pb-Free, Tube; Generic Part Number: AD1555; Manufacturer: Analog Devices; PartNumber: AD1555APZ; Resolution (Bits): 24; Channels: 2; Throughput Rate (SPS): 16K; DatasheetVersion: Rev.B; PackageVersion: 042508-A; PackageReference: P-28; PackageDescription: 28-Lead Plastic Leaded Chip Carrier [PLCC]; Supplier 1: Digi-Key; Supplier Part Number 1: AD1555APZ-ND; Supplier 2: Newark; Supplier Part Number 2: 28M3967; Supplier 3: Mouser; Supplier Part Number 3: 584-AD1555APZ; Interface: Byte, Ser; RoHS: Y; Packing: Tube; Mounting Technology: Surface Mount; Code_JEDEC: MO-047-AB; ComponentLink1Description: Manufacturer URL; ComponentLink1URL: http://www.analog.com/en/index.html; ComponentLink2Description: Datasheet; ComponentLink2URL: http://www.analog.com/static/imported-files/data_sheets/AD1555_1556.pdf; ComponentLink3Description: Package Specification; ComponentLink3URL: http://www.analog.com/static/imported-files/packages/PKG_PDF/PLCC(P)/P_28.pdf; ComponentLink4Description: Product URL; ComponentLink4URL: http://www.analog.com/en/analog-to-digital-converters/ad-converters/ad1555/products/product.html
footprint P-28_N (Leaded Chip Carrier, 28-Leads, Body 11.5x11.5mm, Pitch 1.27mm, IPC Medium Density)
footprint P-28_L (Leaded Chip Carrier, 28-Leads, Body 11.5x11.5mm, Pitch 1.27mm, IPC High Density)
footprint P-28_M (Leaded Chip Carrier, 28-Leads, Body 11.5x11.5mm, Pitch 1.27mm, IPC Low Density)
pins: 1 AGND1 (power) "Analog Ground", 2 PGAOUT (out) "Programmable Gain Amplifier Output. The output of the on-chip programmable gain amplifier is available at this pin. Refer to Table III for PGA gain settings selection.", 3 +VA (power) "Positive Analog Supply Voltage. +5 V nominal.", 4 -VA (power) "Negative Analog Supply Voltage. -5 V nominal.", 5 AIN(+) (in) "Mux Input. Noninverting signal to the PGA mux input. Refer to Table III for input selection.", 6 AIN(-) (in) "Mux Input. Inverting signal to the PGA mux input. Refer to Table III for input selection.", 7 TIN(+) (in) "Mux Input. Noninverting test signal to the PGA mux input. Refer to Table III for input selection.", 8 TIN(-) (in) "Mux Input. Inverting test signal to the PGA mux input. Refer to Table III for input selection.", 9 NC "Pin for Factory Use Only. This pin must be kept not connected for normal operation.", 10 CB0 (in) "Modulator Control. These input pins control the mux selection, the PGA gain settings, and the standby modes of the AD1555. When used with the AD1556, these pins are generally directly tied to the CB0-CB4 output pins of the (See Datasheet)", 11 CB1 (in) "Modulator Control. These input pins control the mux selection, the PGA gain settings, and the standby modes of the AD1555. When used with the AD1556, these pins are generally directly tied to the CB0-CB4 output pins of the (See Datasheet)", 12 CB2 (in) "Modulator Control. These input pins control the mux selection, the PGA gain settings, and the standby modes of the AD1555. When used with the AD1556, these pins are generally directly tied to the CB0-CB4 output pins of the (See Datasheet)", 13 CB3 (in) "Modulator Control. These input pins control the mux selection, the PGA gain settings, and the standby modes of the AD1555. When used with the AD1556, these pins are generally directly tied to the CB0-CB4 output pins of the (See Datasheet)", 14 CB4 (in) "Modulator Control. These input pins control the mux selection, the PGA gain settings, and the standby modes of the AD1555. When used with the AD1556, these pins are generally directly tied to the CB0-CB4 output pins of the (See Datasheet)", 15 MFLG (out) "Modulator Error. Digital output that is pulsed high if an overrange condition occurs in the modulator.", 16 DGND (power) "Digital Ground", 17 MDATA (out) "Modulator Output. The bitstream generated by the modulator is output in a return-to-zero data format. The data is valid for approximately one-half a MCLK cycle. Refer to Figure 3.", 18 MCLK (in) "Clock Input. The clock input signal, nominally 256 kHz, provides the necessary clock for the sigma-? modulator. When this input is static, AD1555 is in the power-down mode.", 19 VL (power) "Positive Digital Supply Voltage. 5 V Nominal.", 20 -VA (power) "Negative Analog Supply Voltage. -5 V nominal.", 21 -VA (power) "Negative Analog Supply Voltage. -5 V nominal.", 22 AGND3 (power) "Analog Ground. Used as the ground reference for the REFIN pin.", 23 REFCAP1 "DAC Reference Filter. The reference input is internally divided and available at this pin to provide the reference for the sigma delta-delta modulator. Connect an external 22 µF (5 V min) tantalum capacitor from REFCAP1 to (See Datasheet)", 24 REFCAP2 "Reference Filter. The reference input is internally divided and available at this pin.", 25 REFIN (in) "Reference Input. This input accepts a 3 V level that is internally divided to provide the reference for the sigma-? modulator.", 26 +VA (power) "Positive Analog Supply Voltage. +5 V nominal.", 27 AGND2 (power) "Analog Ground.", 28 MODIN (in) "Modulator Input. Analog input to the modulator. Normally, this input is directly tied to PGAOUT output."